# Altium footprint library Diode_On_Semiconductor_MBR0540T1G_eec_MFG.PcbLib: 1 footprints
Each footprint in its own frame and in the unit in brackets; x right, y up, seen from the top. Pads: shape width x height; smd on the part's side, far side on the other; paste and mask are expansions set on the pad; w line width, h text height; cw(c..) or ccw(c..) is an arc to the next point about the centre after c.
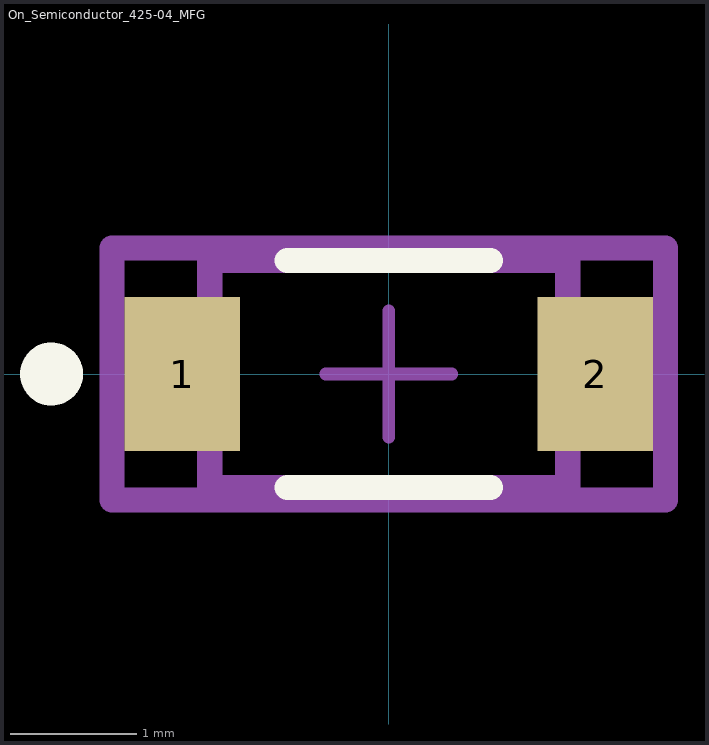
[diagram p0: the footprint, top view; thin cyan lines are the x and y axes]

## On_Semiconductor_425-04_MFG [mil]
pads (2):
  rect 36x48 smd paste+0 mask+0: 1(-64.5,0) 2(64.5,0)
Top Overlay:
  circle w9.84: c-105.31,0 r4.92
  lines w7.87: -31.74,-35.43 31.74,-35.43 ; -31.74,35.43 31.74,35.43
Mechanical 10:
  lines w7.87: -86.44,-39.37 86.44,-39.37 86.44,39.37 -86.44,39.37 -86.44,-39.37
  text ".Designator" at 0,0 h39.37
Mechanical 12:
  lines w7.87: -55.91,-35.43 55.91,-35.43 55.91,35.43 -55.91,35.43 -55.91,-35.43
Mechanical 15:
  lines w3.94: -19.68,0 19.68,0 ; 0,-19.68 0,19.68
  lines w7.87: -86.44,-39.37 86.44,-39.37 86.44,39.37 -86.44,39.37 -86.44,-39.37
3D body "Diode_On_Semiconductor_MBR0540T1G_eec.STEP": height 10, standoff 0, extent -86.44,-39.37 86.44,39.37